# Altium schematic symbol library G6K-2F-Y-DC5.SCHLIB: 1 symbol
Pins are listed as number, name and electrical type; pins without a type are passive.

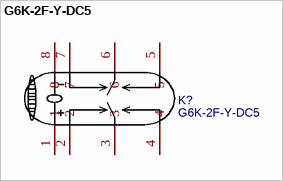
[diagram p0: symbol G6K-2F-Y-DC5]

## G6K-2F-Y-DC5
designator K?
BOM_Manufacturer: OMRON; BOM_Supplier: LCSC; BOM_Manufacturer Part: G6K-2F-Y-DC5; BOM_Supplier Part: C47190; BOM_JLCPCB Part Class: Extended Part; spicePre: K; spiceSymbolName: G6K-2F-Y-DC5
footprint RELAY-SMD_G6K-2F-X-XX
pins: 1, 2, 3, 4, 5, 6, 7, 8